# Altium schematic symbol library LCD-20X4B.SchLib: 1 symbol
Pins are listed as number, name and electrical type; pins without a type are passive.

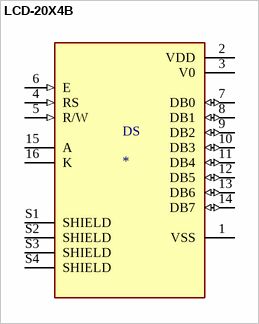
[diagram p0: symbol LCD-20X4B]

## LCD-20X4B
designator DS
Display Development Tools 20X4 CHARACTER BLUE LCD W/BACKLIGHT; MF: Gravitech; MP: LCD-20X4B; Price: None; Value: *; Availability: Unavailable; Mouser-Purchase-URL: https://snapeda.com/shop?store=Mouser&id=833821; SnapEDA_Link: https://www.snapeda.com/parts/LCD-20X4B/Gravitech/view-part/833821/?ref=snap; Package: None
footprint LCD_LCD-20X4B
pins: 1 VSS (power), 2 VDD (power), 3 V0 (power), 4 RS (in), 5 R/W (in), 6 E (in), 7 DB0 (io), 8 DB1 (io), 9 DB2 (io), 10 DB3 (io), 11 DB4 (io), 12 DB5 (io), 13 DB6 (io), 14 DB7 (io), 15 A, 16 K, S1 SHIELD, S2 SHIELD, S3 SHIELD, S4 SHIELD